# EAGLE library part S14B-PH-* (library jst-pa)
Wire-to-Board 2.0mm pitch side mount connector Source: http://www.jst-mfg.com/product/pdf/jpn/PH.pdf http://www.jst-mfg.com/product/detail.php?series=199
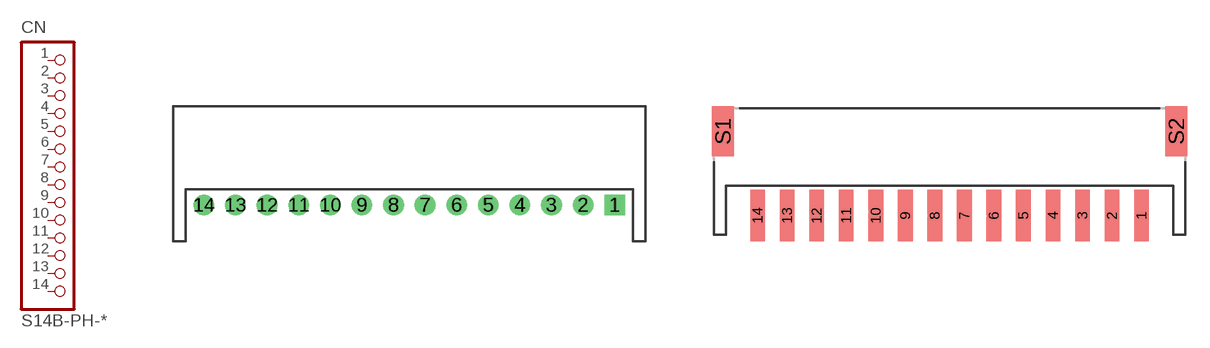
[diagram p19: symbol with the pads of S14B-PH-K-S; footprints S14B-PH-K-S, S14B-PH-SM4-TB]

Designator prefix CN

## S14B-PH-K-S  [S14B-PH-K-S]
1  1  pas
2  2  pas
3  3  pas
4  4  pas
5  5  pas
6  6  pas
7  7  pas
8  8  pas
9  9  pas
10  10  pas
11  11  pas
12  12  pas
13  13  pas
14  14  pas

## S14B-PH-SM4-TB  [S14B-PH-SM4-TB]
Pads as for S14B-PH-K-S

## Footprint S14B-PH-K-S (pad centres in mm)
drill 0.8 square: 1 13,0
drill 0.8: 2 11,0; 3 9,0; 4 7,0; 5 5,0; 6 3,0; 7 1,0; 8 -1,0; 9 -3,0; 10 -5,0; 11 -7,0; 12 -9,0; 13 -11,0; 14 -13,0

## Footprint S14B-PH-SM4-TB (pad centres in mm)
smd 1 x 3.5: 1 13,-1; 2 11,-1; 3 9,-1; 4 7,-1; 5 5,-1; 6 3,-1; 7 1,-1; 8 -1,-1; 9 -3,-1; 10 -5,-1; 11 -7,-1; 12 -9,-1; 13 -11,-1; 14 -13,-1
smd 1.5 x 3.4: S1 -15.35,4.7; S2 15.35,4.7